# Altium footprint library IC Component.PcbLib: 6 footprints
Each footprint in its own frame and in the unit in brackets; x right, y up, seen from the top. Pads: shape width x height; smd on the part's side, far side on the other; paste and mask are expansions set on the pad; w line width, h text height; cw(c..) or ccw(c..) is an arc to the next point about the centre after c.
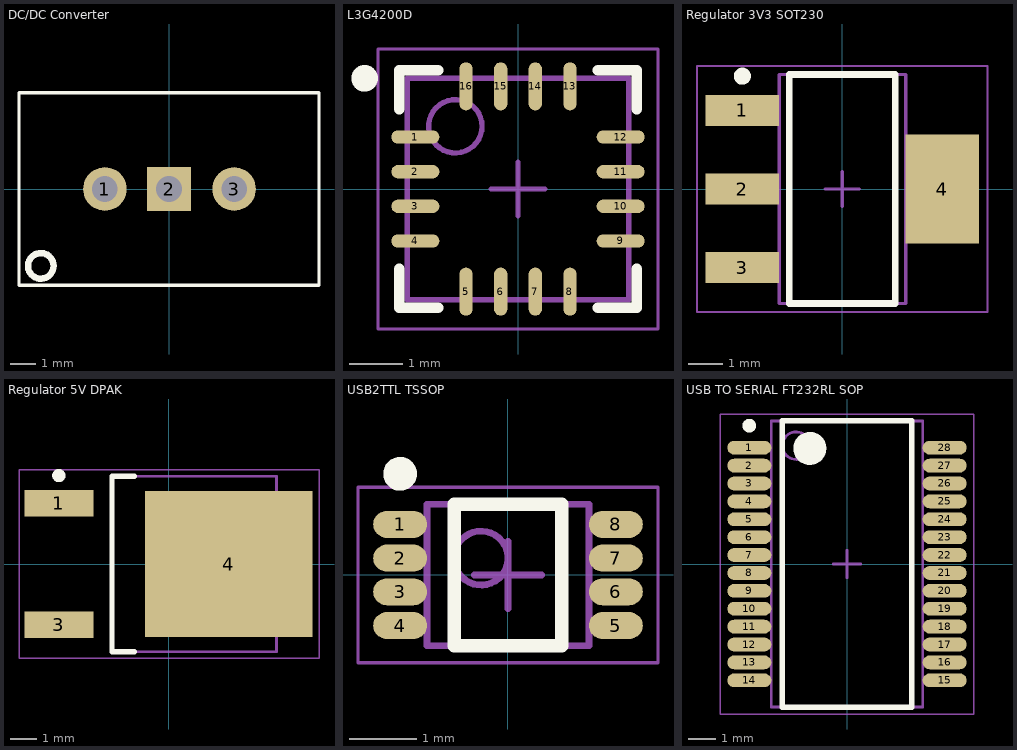
[diagram p0: the footprints below, top view; thin cyan lines are the x and y axes]

## DC/DC Converter [mm]
pads (3):
  round 1.7 hole 1: 1(-2.5,0) 3(2.54,0)
  rect 1.7x1.7 hole 1: 2(0,0)
Top Overlay:
  circle w0.254: c-5,-3 r0.5
  lines w0.127: -5.85,-3.75 5.85,-3.75 5.85,3.75 -5.85,3.75 -5.85,-3.75

## L3G4200D [mm] "QFN, 16-Leads, Body 4,00x4,00mm, Pitch 0,65mm, Thermal Pad 2,03x2,03mm, IPC Medium Density"
height 1.1
pads (16):
  oval 0.9x0.25 smd: 1(-1.925,0.975) 2(-1.925,0.325) 3(-1.925,-0.325) 4(-1.925,-0.975) 9(1.925,-0.975) 10(1.925,-0.325) 11(1.925,0.325) 12(1.925,0.975)
  oval 0.25x0.9 smd: 5(-0.975,-1.925) 6(-0.325,-1.925) 7(0.325,-1.925) 8(0.975,-1.925) 13(0.975,1.925) 14(0.325,1.925) 15(-0.325,1.925) 16(-0.975,1.925)
Top Overlay:
  circle w0.25: c-2.875,2.075 r0.125
  lines w0.2: -2.225,-1.5 -2.225,-2.225 -1.5,-2.225 ; -2.225,1.5 -2.225,2.225 -1.5,2.225 ; 1.5,-2.225 2.225,-2.225 2.225,-1.5 ; 1.5,2.225 2.225,2.225 2.225,1.5
Mechanical 13:
  circle w0.1: c-1.175,1.175 r0.5
  lines w0.1: -2.075,-2.075 2.075,-2.075 2.075,2.075 -2.075,2.075 -2.075,-2.075
Mechanical 15:
  lines w0.05: -2.625,-2.625 2.625,-2.625 2.625,2.625 -2.625,2.625 -2.625,-2.625
  lines w0.1: -0.5,0 0.5,0 ; 0,-0.5 0,0.5
3D body: height 1.1, standoff 0.2, extent -2.075,-2.075 2.075,2.075

## Regulator 3V3 SOT230 [mm] "SOT223, 4-Leads, Body 6,50x7,00mm (avg), Pitch 2,30mm, IPC Medium Density"
height 1.8
pads (4):
  rect 2.15x0.9 smd: 1(-2.925,2.3) 2(-2.925,0) 3(-2.925,-2.3)
  rect 2.15x3.2 smd: 4(2.925,0)
Top Overlay:
  circle w0.25: c-2.925,3.3 r0.125
  lines w0.2: -1.55,-3.35 1.55,-3.35 1.55,3.35 -1.55,3.35 -1.55,-3.35
Mechanical 13:
  lines w0.1: -1.85,-3.35 1.85,-3.35 1.85,3.35 -1.85,3.35 -1.85,-3.35
Mechanical 15:
  lines w0.05: -4.25,-3.6 4.25,-3.6 4.25,3.6 -4.25,3.6 -4.25,-3.6
  lines w0.1: -0.5,0 0.5,0 ; 0,-0.5 0,0.5
3D body: height 1.8, standoff 0.02, extent -1.85,-3.35 1.85,3.35

## Regulator 5V DPAK [mm] "D-PAK, 3-Pads, Body 6,20x6,66mm (max), IPC Medium Density"
height 2.4
pads (3):
  rect 2.6x1 smd: 1(-4.15,2.28) 3(-4.15,-2.28)
  rect 6.3x5.5 smd: 4(2.25,0)
Top Overlay:
  circle w0.25: c-4.15,3.33 r0.125
  lines w0.2: -1.3,-3.3 -2.15,-3.3 -2.15,3.3 -1.3,3.3
Mechanical 13:
  lines w0.1: -2.15,-3.3 -2.15,3.3 4.05,3.3 4.05,-3.3 -2.15,-3.3
Mechanical 15:
  lines w0.05: -5.65,-3.55 -5.65,3.55 5.65,3.55 5.65,-3.55 -5.65,-3.55
  lines w0.1: -0.5,0 0.5,0 ; 0,-0.5 0,0.5
3D body: height 2.4, standoff 0, extent -2.15,-3.3 4.05,3.3

## USB2TTL TSSOP [mm] "TSSOP, 8-Leads, Body 2,05x2,35mm, Pitch 0,50mm, IPC Medium Density"
height 0.9
pads (8):
  oval 0.8x0.4 smd: 1(-1.6,0.75) 2(-1.6,0.25) 3(-1.6,-0.25) 4(-1.6,-0.75) 5(1.6,-0.75) 6(1.6,-0.25) 7(1.6,0.25) 8(1.6,0.75)
Top Overlay:
  circle w0.25: c-1.6,1.5 r0.125
  lines w0.2: -0.8,-1.05 0.8,-1.05 0.8,1.05 -0.8,1.05 -0.8,-1.05
Mechanical 13:
  circle w0.1: c-0.4,0.25 r0.4
  lines w0.1: -1.2,-1.05 1.2,-1.05 1.2,1.05 -1.2,1.05 -1.2,-1.05
Mechanical 15:
  lines w0.05: -2.225,-1.3 2.225,-1.3 2.225,1.3 -2.225,1.3 -2.225,-1.3
  lines w0.1: -0.5,0 0.5,0 ; 0,-0.5 0,0.5
3D body: height 0.9, standoff 0.1, extent -1.2,-1.05 1.2,1.05

## USB TO SERIAL FT232RL SOP [mm] "SOP, 28-Leads, Body 10,25x5,40mm, Pitch 0,65mm, IPC Medium Density"
height 2
pads (28):
  oval 1.6x0.5 smd: 1(-3.55,4.225) 2(-3.55,3.575) 3(-3.55,2.925) 4(-3.55,2.275) 5(-3.55,1.625) 6(-3.55,0.975) 7(-3.55,0.325) 8(-3.55,-0.325) 9(-3.55,-0.975) 10(-3.55,-1.625) 11(-3.55,-2.275) 12(-3.55,-2.925) 13(-3.55,-3.575) 14(-3.55,-4.225) 15(3.55,-4.225) 16(3.55,-3.575) 17(3.55,-2.925) 18(3.55,-2.275) 19(3.55,-1.625) 20(3.55,-0.975) 21(3.55,-0.325) 22(3.55,0.325) 23(3.55,0.975) 24(3.55,1.625) 25(3.55,2.275) 26(3.55,2.925) 27(3.55,3.575) 28(3.55,4.225)
Top Overlay:
  circle w0.25: c-3.55,5.025 r0.125
  circle w0.6: c-1.35,4.2 r0.3
  lines w0.2: -2.35,-5.2 -2.35,5.2 2.35,5.2 2.35,-5.2 -2.35,-5.2
Mechanical 13:
  circle w0.1: c-1.85,4.3 r0.5
  lines w0.1: -2.75,-5.2 -2.75,5.2 2.75,5.2 2.75,-5.2 -2.75,-5.2
Mechanical 15:
  lines w0.05: -4.6,-5.45 -4.6,5.45 4.6,5.45 4.6,-5.45 -4.6,-5.45
  lines w0.1: -0.5,0 0.5,0 ; 0,-0.5 0,0.5
3D body: height 2, standoff 0.05, extent -2.75,-5.2 2.75,5.2